# EAGLE library part BOARD2BOARD_SLOT (library crawler2)
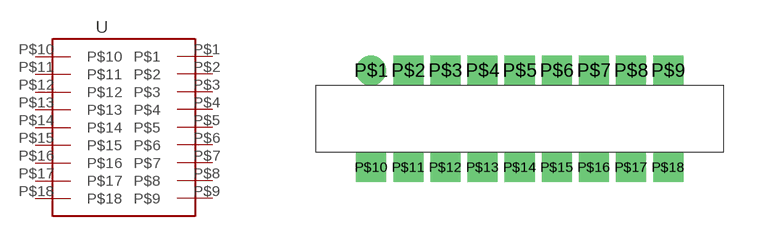
[diagram p1: symbol with the pads of BOARD2BOARD_SLOT; footprint BOARD2BOARD_SLOT]

Designator prefix -

## BOARD2BOARD_SLOT  [BOARD2BOARD_SLOT]
P$1  P$1
P$2  P$2
P$3  P$3
P$4  P$4
P$5  P$5
P$6  P$6
P$7  P$7
P$8  P$8
P$9  P$9
P$10  P$10
P$11  P$11
P$12  P$12
P$13  P$13
P$14  P$14
P$15  P$15
P$16  P$16
P$17  P$17
P$18  P$18

## Footprint BOARD2BOARD_SLOT (pad centres in mm)
drill 0.3 pad 0.711: P$1 1,2.3
drill 0.3 pad 0.711 square: P$2 2,2.3; P$3 3,2.3; P$4 4,2.3; P$5 5,2.3; P$6 6,2.3; P$7 7,2.3; P$8 8,2.3; P$9 9,2.3; P$10 1,-0.3; P$11 2,-0.3; P$12 3,-0.3; P$13 4,-0.3; P$14 5,-0.3; P$15 6,-0.3; P$16 7,-0.3; P$17 8,-0.3; P$18 9,-0.3